# Altium schematic symbol library Walter_MotherBoard.SCHLIB: 26 symbols
Pins are listed as number, name and electrical type; pins without a type are passive.

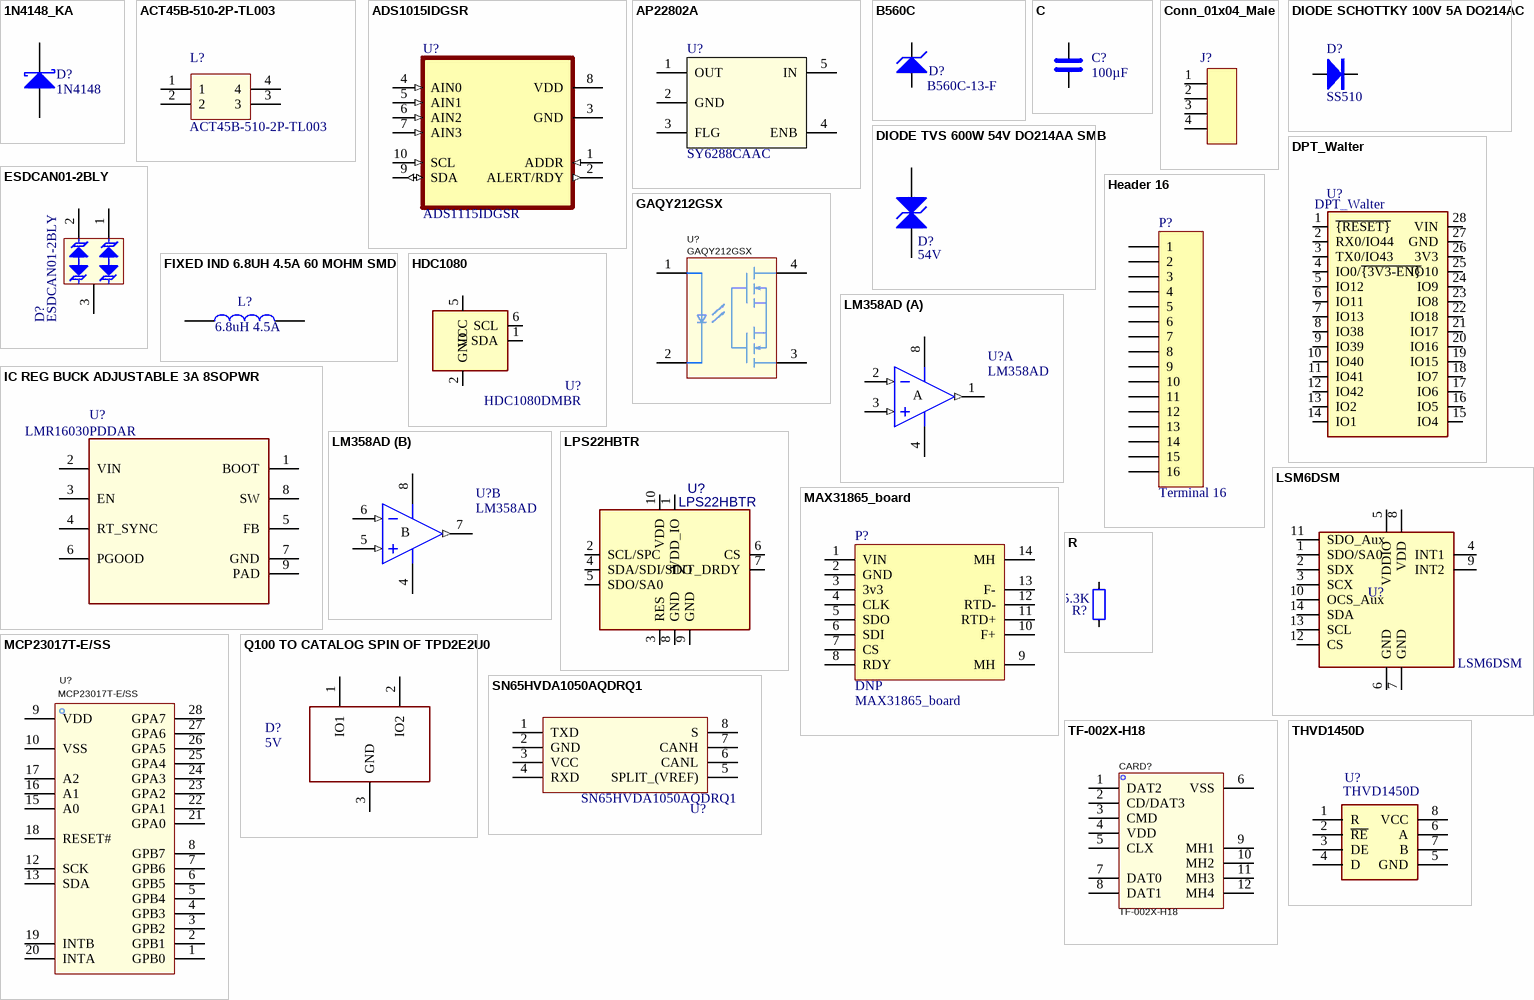
[diagram p0: symbols 1N4148_KA to THVD1450D]

## 1N4148_KA
designator D?, comment 1N4148
1N4148_KA; LCSC PART: C84063; JLCPCB: C84063; lcsc link: https://www.lcsc.com/product-detail/Switching-Diodes_Changzhou-Starsea-Elec-1N4148WS_C84063.html?s_z=n_1n4148; pdf: https://www.lcsc.com/datasheet/lcsc_datasheet_1811021610_Changzhou-Starsea-Elec-1N4148WS_C84063.pdf; Value: 1N4148
simulation model SKYDIODE (Diode)
signal-integrity model D Schottky
footprint SOD323_STM
footprint SOD323_STM_NW
pins: 1 K, 2 A

## ACT45B-510-2P-TL003
designator L?
51uH@100kHz 2.8kΩ@10MHz 1Ω 2 SMD,4.5x3.2mm Common Mode Filters ROHS; PAGE: L51UHACT45B; JLCPCB: C76584; Value: ACT45B-510-2P-TL003; LCSC PART: C76584; lcsc link: https://www.lcsc.com/product-detail/Common-Mode-Filters_TDK-ACT45B-510-2P-TL003_C76584.html?s_z=n_C76584; pdf: https://www.lcsc.com/datasheet/lcsc_datasheet_2412231058_TDK-ACT45B-510-2P-TL003_C76584.pdf
footprint ACT45B1012PTL003
pins: 1, 2, 3, 4

## ADS1015IDGSR
designator U?, comment ADS1115IDGSR
12-Bit, 3.3kSPS, 4-Ch Delta-Sigma ADC With PGA, Oscillator, VREF, Comparator and I2C Interface 10-VSSOP -40 to 125; Value: ADS1115IDGSR; LCSC PART: C37593; JLCPCB: C37593; lcsc link: https://www.lcsc.com/product-detail/Analog-to-Digital-Converters-ADC_Texas-Instruments-ADS1115IDGSR_C37593.html?s_z=n_ADS1115IDGSR; pdf: https://www.lcsc.com/datasheet/lcsc_datasheet_1809192322_Texas-Instruments-ADS1115IDGSR_C37593.pdf
footprint SOP50P490X110-10N
pins: 1 ADDR (in), 2 ALERT/RDY (out), 3 GND (power), 4 AIN0 (in), 5 AIN1 (in), 6 AIN2 (in), 7 AIN3 (in), 8 VDD (power), 9 SDA (io), 10 SCL (in)

## AP22802A
designator U?, comment SY6288CAAC
2.5V~5.5V 60mΩ Active High 2A 1 Load Switch SOT-23-5 Power Distribution Switches ROHS; Value: SY6288CAAC; JLCPCB: C111830; LCSC PART: C111830; lcsc link: https://www.lcsc.com/product-detail/Power-Distribution-Switches_Silergy-Corp-SY6288CAAC_C111830.html; pdf: https://www.lcsc.com/datasheet/lcsc_datasheet_1810010210_Silergy-Corp-SY6288CAAC_C111830.pdf
footprint SOT-23-5 (Footprint not found)
footprint SOT95P285X145-5N
pins: 1 OUT (power), 2 GND, 3 FLG, 4 ENB, 5 IN

## B560C
designator D?, comment B560C-13-F
60V 700mV@5A 5A SMC(DO-214AB) Schottky Diodes ROHS; Value: B560C-13-F; LCSC PART: C85100; JLCPCB: C85100; lcsc link: https://www.lcsc.com/product-detail/Schottky-Diodes_Diodes-Incorporated-B560C-13-F_C85100.html?s_z=n_b560c; pdf: https://www.lcsc.com/datasheet/lcsc_datasheet_2412251154_Diodes-Incorporated-B560C-13-F_C85100.pdf
footprint SMC_DIO
pins: 1 K, 2 A

## C
designator C?, comment 100µF
6.3V 100uF X5R ±20% 1210 Multilayer Ceramic Capacitors MLCC - SMD/SMT ROHS; JLCPCB: C49066; Value: 100µF; LCSC PART: C49066; lcsc link: https://www.lcsc.com/product-detail/Multilayer-Ceramic-Capacitors-MLCC-SMD-SMT_Samsung-Electro-Mechanics-CL32A107MQVNNNE_C49066.html?s_z=n_C49066
footprint C_1210_3225Metric
pins: 1, 2

## Conn_01x04_Male
designator J?  (value not drawn)
4P 2.54mm Single Row 1x4P Plugin,P=2.54mm Pin Headers ROHS; JLCPCB: C5116483; Value: Conn_01x04_Male; LCSC PART: C5116483; pdf: https://www.lcsc.com/product-detail/Pin-Headers_ZHOURI-2-54-1-4_C5116483.html?s_z=n_C5116483; lcsc link: https://www.lcsc.com/product-detail/Pin-Headers_ZHOURI-2-54-1-4_C5116483.html?s_z=n_C5116483
footprint PinHeader_1x04_P2.54mm_Vertical
pins: 1 Pin_1, 2 Pin_2, 3 Pin_3, 4 Pin_4

## DIODE SCHOTTKY 100V 5A DO214AC
designator D?  value SS510  (hidden comment: DIODE SCHOTTKY 100V 5A DO214AC)
MFN: SS510-HT; STOK KOD: HM0953; TYPE: SMD; NAME: DIODE SCHOTTKY 100V 5A DO214AC; Datasheet: https://www.smc-diodes.com/propdf/SK510%20N1113%20REV.A.pdf; lcsc link: https://www.lcsc.com/product-detail/Schottky-Diodes_MDD-Microdiode-Semiconductor-SS510_C65010.html; JLCPCB: C65010; LCSC PART: C65010; pdf: https://www.lcsc.com/datasheet/lcsc_datasheet_2411211954_MDD-Microdiode-Semiconductor-SS510_C65010.pdf
footprint S1M-13-F
pins: 1 K, 2 A

## DIODE TVS 600W 54V DO214AA SMB
designator D?, comment value 54V  (hidden comment: SMBJ54CA-HT)
600W Bidirectional 54V SMB ESD and Surge Protection (TVS/ESD) ROHS; STOK KOD: HM0531; TYPE: SMD; NAME: DIODE TVS 600W 54V DO214AA SMB; MFN: SMBJ54CA-HT; Datasheet: https://www.littelfuse.com/~/media/electronics/datasheets/tvs_diodes/littelfuse_tvs_diode_smbj_datasheet.pdf.pdf; lcsc link: https://www.lcsc.com/product-detail/ESD-and-Surge-Protection-TVS-ESD_FOSAN-SMBJ54CA_C5353227.html?s_z=n_SMBJ54CA; LCSC PART: C5353227; pdf: https://www.lcsc.com/datasheet/lcsc_datasheet_2301131609_FOSAN-SMBJ54CA_C5353227.pdf; JLCPCB: C5353227
footprint SMBJ54CA-HT
pins: 1 A, 2 K

## DPT_Walter
designator U?, comment value DPT_Walter  (hidden comment: DNP)
footprint walter-socket
pins: 1 ~{{RESET}}, 2 RX0/IO44, 3 TX0/IO43, 4 IO0/~{{3V3-EN}}, 5 IO12, 6 IO11, 7 IO13, 8 IO38, 9 IO39, 10 IO40, 11 IO41, 12 IO42, 13 IO2, 14 IO1, 15 IO4, 16 IO5, 17 IO6, 18 IO7, 19 IO15, 20 IO16, 21 IO17, 22 IO18, 23 IO8, 24 IO9, 25 IO10, 26 3V3, 27 GND, 28 VIN

## ESDCAN01-2BLY
designator D?
5.5A@8/20us 230W 40V 25V 24V SOT-23 ESD and Surge Protection (TVS/ESD) ROHS; PAGE: DPESDCAN01; JLCPCB: C1976606; Value: ESDCAN01-2BLY; LCSC PART: C1976606; lcsc link: https://www.lcsc.com/product-detail/ESD-and-Surge-Protection-TVS-ESD_STMicroelectronics-ESDCAN01-2BLY_C1976606.html?s_z=n_C1976606; pdf: https://www.lcsc.com/datasheet/lcsc_datasheet_2410010332_STMicroelectronics-ESDCAN01-2BLY_C1976606.pdf
footprint SOT95P255X150-3N
pins: 1, 2, 3

## FIXED IND 6.8UH 4.5A 60 MOHM SMD
designator L?, comment 6.8uH 4.5A
4.5A 6.8uH ±20% 8A SMD,6.5x6.9mm Power Inductors ROHS; MFN: IHLP2525CZER6R8M01; TYPE: SMD; JLCPCB: C506575; LCSC PART: C506575; lcsc link: https://www.lcsc.com/product-detail/Power-Inductors_Vishay-Intertech-IHLP2525CZER6R8M01_C506575.html?s_z=n_IHLP2525CZER6R8M01; pdf: https://www.lcsc.com/datasheet/lcsc_datasheet_2409300703_Vishay-Intertech-IHLP2525CZER6R8M01_C506575.pdf; Value: 6.8uH 4.5A
footprint IHLP2525CZER6R8M01
pins: 1, 2

## GAQY212GSX
designator U?
1.32V 60V 180mΩ 1A SOP-4 Solid State Relays (MOS Output) ROHS; Manufacturer: SUPSiC(国晶微半导体); Add into BOM: yes; Isolation Voltage(rms): 2.5kV; Turn-on time: 350us; Turn-off time: 100us; Symbol: GAQY212GSX; Device: GAQY212GSX; LCSC Part Name: 固态继电器; Supplier Part: C19271988; Manufacturer Part: GAQY212GSX; Supplier Footprint: SOP-4; JLCPCB Part Class: Extended Part; Datasheet: https://atta.szlcsc.com/upload/public/pdf/source/20241011/A89ED24ACAE58F7B7A4718E65AC52A14.pdf; Supplier: LCSC; Convert to PCB: yes; Relay Contact Form: -; Load Type: -; Input Forward Voltage: 1.32V; Voltage - Load: 60V; Continuous Load Current: 1A; On Resistance: 180mΩ; LCSC PART: C19271988; lcsc link: https://www.lcsc.com/product-detail/Solid-State-Relays-MOS-Output_SUPSiC-GAQY212GSX_C19271988.html; pdf: https://www.lcsc.com/datasheet/lcsc_datasheet_2411220035_SUPSiC-GAQY212GSX_C19271988.pdf; Value: GAQY212GSX; JLCPCB: C19271988
footprint SOP-4_L4.3-W4.4-P2.54-LS6.8-TR
3D model SOP-4_L4.3-W4.4-P2.54-LS6.8-TR
pins: 1, 2, 3, 4

## HDC1080
designator U?, comment HDC1080DMBR
JLCPCB: C82227; Value: HDC1080DMBR; Footprint: Package_SON:Texas_PWSON-N6; LCSC PART: C82227; lcsc link: https://www.lcsc.com/product-detail/Temperature-and-Humidity-Sensor_Texas-Instruments-HDC1080DMBR_C82227.html?s_z=n_C82227; pdf: https://www.ti.com/lit/ds/symlink/hdc1080.pdf?ts=1737300187160&ref_url=https%253A%252F%252Fwww.google.com%252F
footprint Texas_PWSON-N6
pins: 1 SDA, 2 GND, 3 NC hidden, 4 NC hidden, 5 VCC, 6 SCL, 7 DAP hidden

## Header 16
designator P?, comment Terminal 16
3.5mm 1x16P -60℃~+105℃ 16P Gray 16 1 Plugin,P=3.5mm Spring Clamp System Terminal Block; LatestRevisionDate: 17-Jul-2002; LatestRevisionNote: Re-released for DXP Platform.; Publisher: Altium Limited; lcsc link: https://www.lcsc.com/product-detail/Spring-Clamp-System-Terminal-Block_WAGO-250-216_C2833595.html; LCSC PART: C2833595; JLCPCB: C2833595; pdf: https://www.lcsc.com/datasheet/lcsc_datasheet_2410121253_WAGO-250-216_C2833595.pdf; Value: Terminal 16
signal-integrity model Connector
footprint CONN-TH_250-216
pins: 1, 2, 3, 4, 5, 6, 7, 8, 9, 10, 11, 12, 13, 14, 15, 16

## IC REG BUCK ADJUSTABLE 3A 8SOPWR
designator U?, comment LMR16030PDDAR
Step-down type Adjustable 800mV~50V 3A 4.3V~60V SOIC-8-EP DC-DC Converters ROHS; STOK KOD: HM0056; NAME: IC REG BUCK ADJUSTABLE 3A 8SOPWR; MFN: LMR16030PDDAR; TYPE: SMD; Datasheet: https://www.ti.com/general/docs/suppproductinfo.tsp?distId=10&gotoUrl=https%3A%2F%2Fwww.ti.com%2Flit%2Fgpn%2Flmr16030; LCSC PART: C90665; JLCPCB: C90665; lcsc link: https://www.lcsc.com/product-detail/DC-DC-Converters_Texas-Instruments-LMR16030PDDAR_C90665.html?s_z=n_LMR16030PDDAR; pdf: https://www.lcsc.com/datasheet/lcsc_datasheet_2410121701_Texas-Instruments-LMR16030PDDAR_C90665.pdf; Value: LMR16030PDDAR
footprint LMR16030PDDAR
pins: 1 BOOT, 2 VIN, 3 EN, 4 RT_SYNC, 5 FB, 6 PGOOD, 7 GND, 8 SW, 9 PAD

## LM358AD
designator U?
Low-Power Dual Operational Amplifier; Published: 24-Aug-2001; LatestRevisionDate: 13-Apr-2006; LatestRevisionNote: IPC-7351 Footprint Added.; DatasheetVersion: Jun-1998; PackageVersion: Dec-2002; PackageReference: SO8; Publisher: Altium Limited; PackageDescription: 8-Pin Small Outline Integrated Circuit 1.27 mm Pitch; Code_JEDEC: MS-012-AA; Code_IPC: SOIC127P600-8; ComponentLink1Description: Manufacturer Link; ComponentLink1URL: http://www.st.com/; ComponentLink2Description: Datasheet; ComponentLink2URL: http://www.st.com/stonline/products/literature/ds/2163/lm358.pdf; LCSC PART: C5423; lcsc link: https://www.lcsc.com/product-detail/Operational-Amplifier_Texas-Instruments-LM358DR_C5423.html?s_z=n_lm358; JLCPCB: C5423; pdf: https://www.lcsc.com/datasheet/lcsc_datasheet_1810181640_Texas-Instruments-LM358DR_C5423.pdf; Value: LM358AD
footprint SO8_N (SOIC, 8-Leads, Body 4.9x3.9mm, Pitch 1.27mm, IPC Medium Density)
footprint SO8_L (SOIC, 8-Leads, Body 4.9x3.9mm, Pitch 1.27mm, IPC High Density)
footprint SO8_M (SOIC, 8-Leads, Body 4.9x3.9mm, Pitch 1.27mm, IPC Low Density)
3D model SO8 (8-Pin Small Outline Integrated Circuit 1.27 mm Pitch)
simulation model LM358 (SUBCKT)
pins on every part: 4 V- (power), 8 V+ (power)
part A pins: 1 OUT (out), 2 IN- (in), 3 IN+ (in)
part B pins: 5 IN+ (in), 6 IN- (in), 7 OUT (out)
part A text: A
part B text: B

## LPS22HBTR
designator U?, comment value LPS22HBTR  (hidden comment: LPS22HH)
26Kpa~126Kpa HLGA-10(2x2) Pressure Sensors ROHS; LCSC PART: C2827824; Footprint: LPS22HBTR:HLGA10_2X2_STM-L; lcsc link: https://www.lcsc.com/product-detail/Pressure-Sensors_STMicroelectronics-LPS22HHTR_C2827824.html; pdf: https://www.lcsc.com/datasheet/lcsc_datasheet_2209222100_STMicroelectronics-LPS22HHTR_C2827824.pdf; JLCPCB: C2827824
footprint HLGA10_2X2_STM-L
pins: 1 VDD_IO, 2 SCL/SPC, 3 RES, 4 SDA/SDI/SDO, 5 SDO/SA0, 6 CS, 7 INT_DRDY, 8 GND, 9 GND, 10 VDD

## LSM6DSM
designator U?
JLCPCB: C94048; Value: LSM6DSM; Footprint: Package_LGA:LGA-14_3x2.5mm_P0.5mm_LayoutBorder3x4y; LCSC PART: C94048; lcsc link: https://www.lcsc.com/product-detail/Accelerometers_STMicroelectronics-LSM6DSMTR_C94048.html?s_z=n_C94048; pdf: https://www.lcsc.com/datasheet/lcsc_datasheet_1811101102_STMicroelectronics-LSM6DSMTR_C94048.pdf
footprint LGA-14_3x2.5mm_P0.5mm_LayoutBorder3x4y
pins: 1 SDO/SA0, 2 SDX, 3 SCX, 4 INT1, 5 VDDIO, 6 GND, 7 GND, 8 VDD, 9 INT2, 10 OCS_Aux, 11 SDO_Aux, 12 CS, 13 SCL, 14 SDA

## MAX31865_board
designator P?, comment DNP  value MAX31865_board
MAX31865_board; LatestRevisionDate: 17-Jul-2002; LatestRevisionNote: Re-released for DXP Platform.; Publisher: Altium Limited
signal-integrity model Connector
footprint MAX31865_board (Connector; Header; 8 Position)
pins: 1 VIN, 2 GND, 3 3v3, 4 CLK, 5 SDO, 6 SDI, 7 CS, 8 RDY, 9 MH, 10 F+, 11 RTD+, 12 RTD-, 13 F-, 14 MH

## MCP23017T-E/SS
designator U?
16-Bit I/O Expander with Serial Interface; Manufacturer: MICROCHIP(美国微芯); Add into BOM: yes; Number of I/O: 16; Interrupt Output: With Interrupt Output; Supply Voltage: 1.8V~5.5V; Symbol: MCP23017T-E/SS; Device: MCP23017T-E/SS; LCSC Part Name: 16位带串行接口的I/O扩展器; Supplier Part: C558584; Manufacturer Part: MCP23017T-E/SS; Supplier Footprint: SSOP-28; JLCPCB Part Class: Extended Part; Datasheet: https://atta.szlcsc.com/upload/public/pdf/source/20221209/1BF939F88C2D907BC056D7BF485E3103.pdf; Supplier: LCSC; Convert to PCB: yes; Output Source current: -; Output Sink Current: -; Clock Frequency: -; Operating Temperature: -40℃~+125℃; LCSC PART: C558584; JLCPCB: C558584; lcsc link: https://www.lcsc.com/product-detail/I-O-Expanders_Microchip-Tech-MCP23017T-E-SS_C558584.html?s_z=n_MCP23017; pdf: https://www.lcsc.com/datasheet/lcsc_datasheet_2410122007_Microchip-Tech-MCP23017T-E-SS_C558584.pdf; Value: MCP23017T-E/SS
footprint SSOP-28_L10.2-W5.3-P0.65-LS7.8-BL
3D model SSOP-28_L10.2-W5.3-H2.0-LS7.8-P0.65
pins: 1 GPB0, 2 GPB1, 3 GPB2, 4 GPB3, 5 GPB4, 6 GPB5, 7 GPB6, 8 GPB7, 9 VDD, 10 VSS, 11 NC hidden, 12 SCK, 13 SDA, 14 NC hidden, 15 A0, 16 A1, 17 A2, 18 RESET#, 19 INTB, 20 INTA, 21 GPA0, 22 GPA1, 23 GPA2, 24 GPA3, 25 GPA4, 26 GPA5, 27 GPA6, 28 GPA7

## Q100 TO CATALOG SPIN OF TPD2E2U0
designator D?  value 5V  (hidden comment: Q100 TO CATALOG SPIN OF TPD2E2U0)
MFN: TPD2E2U06DCKR; TYPE: SMD; STOK KOD: HM0072; NAME: Q100 TO CATALOG SPIN OF TPD2E2U0; JLCPCB: C5310938; LCSC PART: C5310938; lcsc link: https://www.lcsc.com/product-detail/ESD-and-Surge-Protection-TVS-ESD_TECH-PUBLIC-TPD2E2U06QDCKR-TP_C5310938.html?s_z=n_TPD2E2U0; pdf: https://www.lcsc.com/datasheet/lcsc_datasheet_2411121117_TECH-PUBLIC-TPD2E2U06QDCKR-TP_C5310938.pdf
footprint TPD2E2U06DCKR
pins: 1 IO1, 2 IO2, 3 GND

## R
designator R?, comment 45.3K
Value: 45.3K; LCSC PART: C23058; JLCPCB: C23058; lcsc link: https://www.lcsc.com/product-detail/Chip-Resistor-Surface-Mount_UNI-ROYAL-Uniroyal-Elec-0603WAF4532T5E_C23058.html
footprint R_0603_1608Metric
footprint RES_0603
pins: 1, 2

## SN65HVDA1050AQDRQ1
designator U?
PAGE: ICSN65HVDA1050A; JLCPCB: C115764; Value: SN65HVDA1050AQDRQ1; Footprint: SN65HVDA1050AQDRQ1:SOIC127P600X175-8N; pdf: https://www.lcsc.com/datasheet/lcsc_datasheet_2410010301_Texas-Instruments-SN65HVDA1050AQDRQ1_C115764.pdf; LCSC PART: C115764; lcsc link: https://www.lcsc.com/product-detail/CAN-Transceivers_Texas-Instruments-SN65HVDA1050AQDRQ1_C115764.html?s_z=n_C115764
footprint SOIC127P600X175-8N
footprint SOIC127P600
pins: 1 TXD, 2 GND, 3 VCC, 4 RXD, 5 SPLIT_(VREF), 6 CANL, 7 CANH, 8 S

## TF-002X-H18
designator CARD?
Card Slot MicroSD card (TF card) Flip type SMD SD Card / Memory Card Connector ROHS; Manufacturer: SOFNG(硕方); Symbol: TF-002-H18; Add into BOM: yes; Device: TF-002X-H18; LCSC Part Name: 翻盖式 MicroSD卡(TF卡) 卡座; Supplier Part: C125814; Manufacturer Part: TF-002X-H18; Supplier Footprint: SMD; JLCPCB Part Class: Extended Part; Datasheet: https://atta.szlcsc.com/upload/public/pdf/source/20200313/C125814_E45762AFA89F96AEF2D8FC2220BDEE92.pdf; Supplier: LCSC; Convert to PCB: yes; Card Connection Mode: Flip type; Card Type: MicroSD card (TF card); Connector Type: Card Slot; Maximum Body Height: -; Operating Temperature Range: -; pdf: https://www.lcsc.com/datasheet/lcsc_datasheet_2410121543_SOFNG-TF-002X-H18_C125814.pdf; lcsc link: https://www.lcsc.com/product-detail/SD-Card-Memory-Card-Connector_SOFNG-TF-002X-H18_C125814.html?s_z=n_microsd; LCSC PART: C125814; Value: TF-002X-H18; JLCPCB: C125814; JLCPCB: C458218
footprint SIM-SMD_TF-002-H18
3D model SIM-SMD_TF-002-H18 (PCB3D Model)
pins: 1 DAT2, 2 CD/DAT3, 3 CMD, 4 VDD, 5 CLX, 6 VSS, 7 DAT0, 8 DAT1, 9 MH1, 10 MH2, 11 MH3, 12 MH4

## THVD1450D
designator U?
JLCPCB: C2671361; Value: THVD1450D; Footprint: THVD1450D:SOIC127P599X175-8N; LCSC PART: C2671361; lcsc link: https://www.lcsc.com/product-detail/RS-485-RS-422-ICs_Texas-Instruments-THVD1450DR_C2671361.html?s_z=n_C2671361; pdf: https://www.ti.com/lit/ds/symlink/thvd1450.pdf?HQS=dis-dk-null-digikeymode-dsf-pf-null-wwe&ts=1737388582157&ref_url=https%253A%252F%252Fwww.ti.com%252Fgeneral%252Fdocs%252Fsuppproductinfo.tsp%253FdistId%253D10%2526gotoUrl%253Dhttps%253A%252F%252Fwww.ti.com%252Flit%252Fgpn%252Fthvd1450
footprint SOIC127P599X175-8N
footprint SOIC127P600
pins: 1 R, 2 ~{RE}, 3 DE, 4 D, 5 GND, 6 A, 7 B, 8 VCC